# EAGLE library part 4599 (library 45xx)
8-bit addressable LATCH
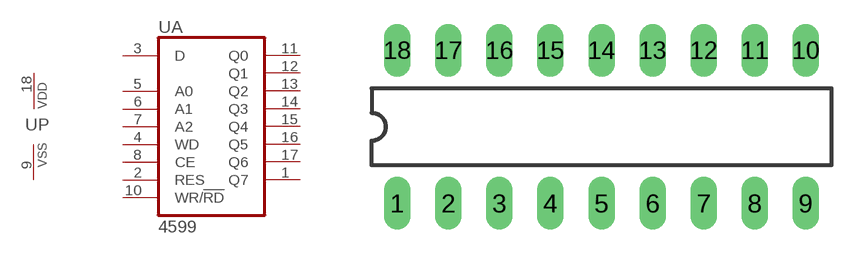
[diagram p53: symbol with the pads of DIL18; footprint DIL18]

Designator prefix U; gates A=4599 P=PWRN

## 4599N  [DIL18]
1  A:Q7  out
2  A:RES  in
3  A:D
4  A:WD  in
5  A:A0  in
6  A:A1  in
7  A:A2  in
8  A:CE  in
9  P:VSS  pwr
10  A:WR/!RD  in
11  A:Q0  out
12  A:Q1  out
13  A:Q2  out
14  A:Q3  out
15  A:Q4  out
16  A:Q5  out
17  A:Q6  out
18  P:VDD  pwr

## Footprint DIL18 (pad centres in mm)
Dual In Line Package
drill 0.813 long: 1 -10.16,-3.81; 2 -7.62,-3.81; 3 -5.08,-3.81; 4 -2.54,-3.81; 5 0,-3.81; 6 2.54,-3.81; 7 5.08,-3.81; 8 7.62,-3.81; 9 10.16,-3.81; 10 10.16,3.81; 11 7.62,3.81; 12 5.08,3.81; 13 2.54,3.81; 14 0,3.81; 15 -2.54,3.81; 16 -5.08,3.81; 17 -7.62,3.81; 18 -10.16,3.81